# EAGLE library part 74HC163D,653 (library PC-Engine)
NEXPERIA - 74HC163D,653 - COUNTER, SYNC BINARY, 51MHZ, SOIC-16 Source: Datasheet <https://assets.nexperia.com/documents/data-sheet/74HC_HCT163.pdf>
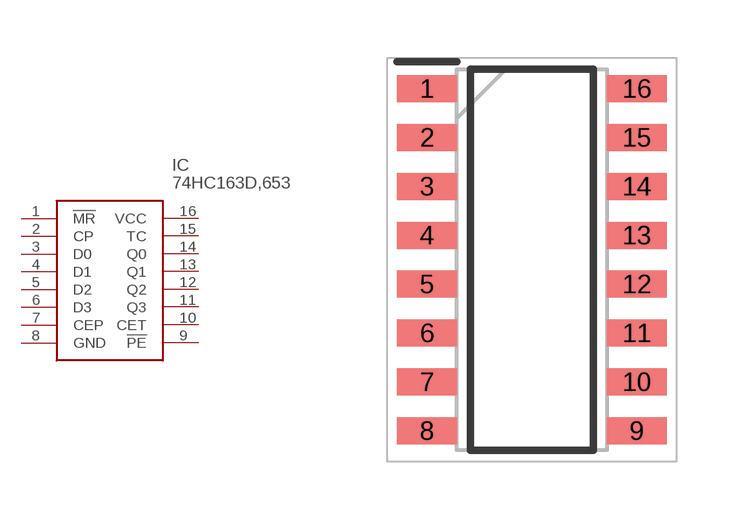
[diagram p6: symbol with the pads of SOIC127P600X175-16N; footprint SOIC127P600X175-16N]

Designator prefix IC

## 74HC163D,653 (DESCRIPTION: NEXPERIA - 74HC163D,653 - COUNTER, SYNC BINARY, 51MHZ, SOIC-16; HEIGHT: 1.75mm; MANUFACTURER_NAME: Nexperia; MANUFACTURER_PART_NUMBER: 74HC163D,653; MOUSER_PART_NUMBER: 771-HC163D653; MOUSER_PRICE-STOCK: https://www.mouser.com/Search/Refine.aspx?Keyword=771-HC163D653)  [SOIC127P600X175-16N]
1  !MR
2  CP
3  D0
4  D1
5  D2
6  D3
7  CEP
8  GND  pwr
9  !PE
10  CET
11  Q3
12  Q2
13  Q1
14  Q0
15  TC
16  VCC  pwr

## Footprint SOIC127P600X175-16N (pad centres in mm)
74HC163D,653
smd 1.55 x 0.7: 1 -2.725,4.445; 2 -2.725,3.175; 3 -2.725,1.905; 4 -2.725,0.635; 5 -2.725,-0.635; 6 -2.725,-1.905; 7 -2.725,-3.175; 8 -2.725,-4.445; 9 2.725,-4.445; 10 2.725,-3.175; 11 2.725,-1.905; 12 2.725,-0.635; 13 2.725,0.635; 14 2.725,1.905; 15 2.725,3.175; 16 2.725,4.445